# Altium footprint library SnapEDApcb.PcbLib: 1 footprints
Each footprint in its own frame and in the unit in brackets; x right, y up, seen from the top. Pads: shape width x height; smd on the part's side, far side on the other; paste and mask are expansions set on the pad; w line width, h text height; cw(c..) or ccw(c..) is an arc to the next point about the centre after c.
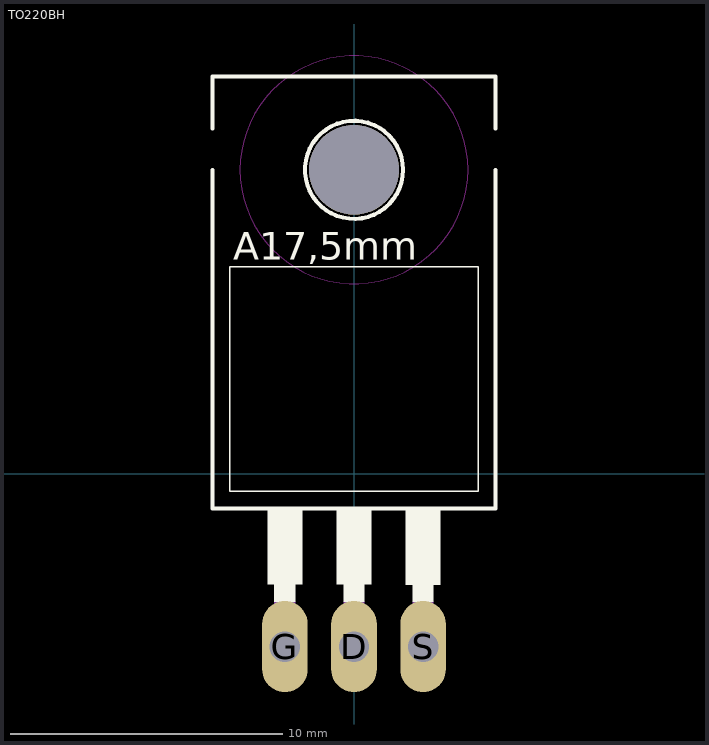
[diagram p0: the footprint, top view; thin cyan lines are the x and y axes]

## TO220BH [mil]
pads (4):
  oval 66x132 hole 44: D(0,-250) G(-100,-250) S(100,-250)
  round 130 hole 130 unplated: ""(0,440)
Top Overlay:
  circle w6: c0,440 r71
  region: 115,-185.31 85.14,-185.31 85.14,-160 115,-160
  region: 15,-185.3 -15.02,-185.3 -15.02,-160 15,-160
  region: -85,-185.11 -115.07,-185.11 -115.07,-160 -85,-160
  region: -75,-160.01 -125.01,-160.01 -125.01,-50 -75,-50
  region: 25,-160 -25,-160 -25,-50 25,-50
  region: 125,-160.21 75.1,-160.21 75.1,-50 125,-50
  lines w2: -180,-25 180,-25 180,300 -180,300 -180,-25
  lines w6: -205,440 -205,-50 205,-50 205,440 ; -205,500 -205,575 205,575 205,500
  text "A17,5mm" at -175.07,310.12 h40.02
Keep-Out Layer:
  circle w0: c0,440 r165
  circle w0: c0,440 r165
Mechanical 13:
  region: -85,-260.29 -115.13,-260.29 -115.13,-185 -85,-185
  region: 15,-260.51 -15.03,-260.51 -15.03,-185 15,-185
  region: 115,-260.19 85.06,-260.19 85.06,-185 115,-185